# EAGLE library part 6871XX14522_68711414522 (library WR-FPC)
WR-FPC 0.50 mm SMT ZIF Horizontal Bottom Contact KIND PROPERTIES Pitch 0.5 mm MATERIAL PROPERTIES Insulator Material LCP Contact Material Phosphor Bronze Contact Plating 100 (µ") Tin over 50 (µ") Nickel Contact Type Stamped Solder Tabs Brass <https://www.we-online.com/catalog/media/o32870v209%20Family_WR-FPC_6871xx14522.jpg> Details see: https://www.we-online.com/catalog/en/FPC_0_5_SMT_ZIF_HORIZONTAL_BOTTOM_CONTACT_6871XX14522/ Updated by Ella Wu 2020-08-26 2020(C) Wurth Elektronik
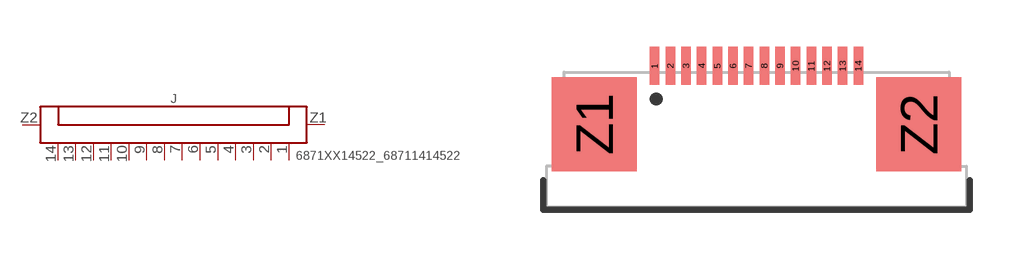
[diagram p165: symbol with the pads of 68711414522; footprint 68711414522]

Designator prefix J

## 6871XX14522_68711414522 (CONTACT-RESISTANCE: 20mOhm; DATASHEET-URL: https://www.we-online.com/redexpert/spec/68711414522?ae; IR: 0.5A; L: 13.4mm; PACKAGING: Tape and Reel; PART-NUMBER: 68711414522; PINS: 14; PITCH: 0.5mm; TYPE: Horizontal; VALUE: 68711414522; WORKING-VOLTAGE: 50V(AC))  [68711414522]
1  1  pas
2  2  pas
3  3  pas
4  4  pas
5  5  pas
6  6  pas
7  7  pas
8  8  pas
9  9  pas
10  10  pas
11  11  pas
12  12  pas
13  13  pas
14  14  pas
Z1  Z1  pas
Z2  Z2  pas

## Footprint 68711414522 (pad centres in mm)
WR-FPC 0.50 mm SMT ZIF Horizontal Bottom Contact , 14 Pins
smd 0.3 x 1.2: 1 -3.25,2.35; 2 -2.75,2.35; 3 -2.25,2.35; 4 -1.75,2.35; 5 -1.25,2.35; 6 -0.75,2.35; 7 -0.25,2.35; 8 0.25,2.35; 9 0.75,2.35; 10 1.25,2.35; 11 1.75,2.35; 12 2.25,2.35; 13 2.75,2.35; 14 3.25,2.35
smd 2.7 x 3: Z1 -5.18,0.49; Z2 5.18,0.49